# Altium schematic symbol library AT25DF041A-SSH.SchLib: 1 symbol
Pins are listed as number, name and electrical type; pins without a type are passive.

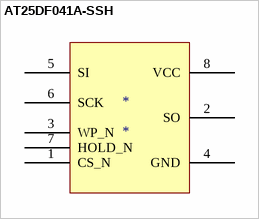
[diagram p0: symbol AT25DF041A-SSH]

## AT25DF041A-SSH
designator *
footprint SOIC127P600-8AL (SOIC, 8-Leads, Body 4.9x3.9mm, Pitch 1.27mm, IPC High Density)
pins: 1 CS_N, 2 SO, 3 WP_N, 4 GND, 5 SI, 6 SCK, 7 HOLD_N, 8 VCC